# EAGLE library part JS202011CQN (library ELE3000)
SLIDING SWITCH Siemens, distributor Buerklin, 11G766
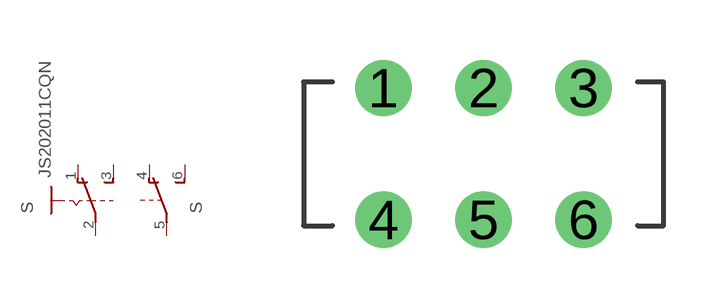
[diagram p10: symbol with the pads of JS202011CQN; footprint JS202011CQN]

Designator prefix S; gates B=U2 A=SIS-

## JS202011CQN  [JS202011CQN]
1  A:O  pas
2  A:P  pas
3  A:S  pas
4  B:O  pas
5  B:P  pas
6  B:S  pas

## Footprint JS202011CQN (pad centres in mm)
drill 0.9: 1 -2.54,2.03; 2 -0.04,2.03; 3 2.46,2.03; 4 -2.54,-1.27; 5 -0.04,-1.27; 6 2.46,-1.27